# Altium integrated library TI Power Management Battery Management.IntLib: 949 symbols (part 1 of 62)
Pins are listed as number, name and electrical type; pins without a type are passive.

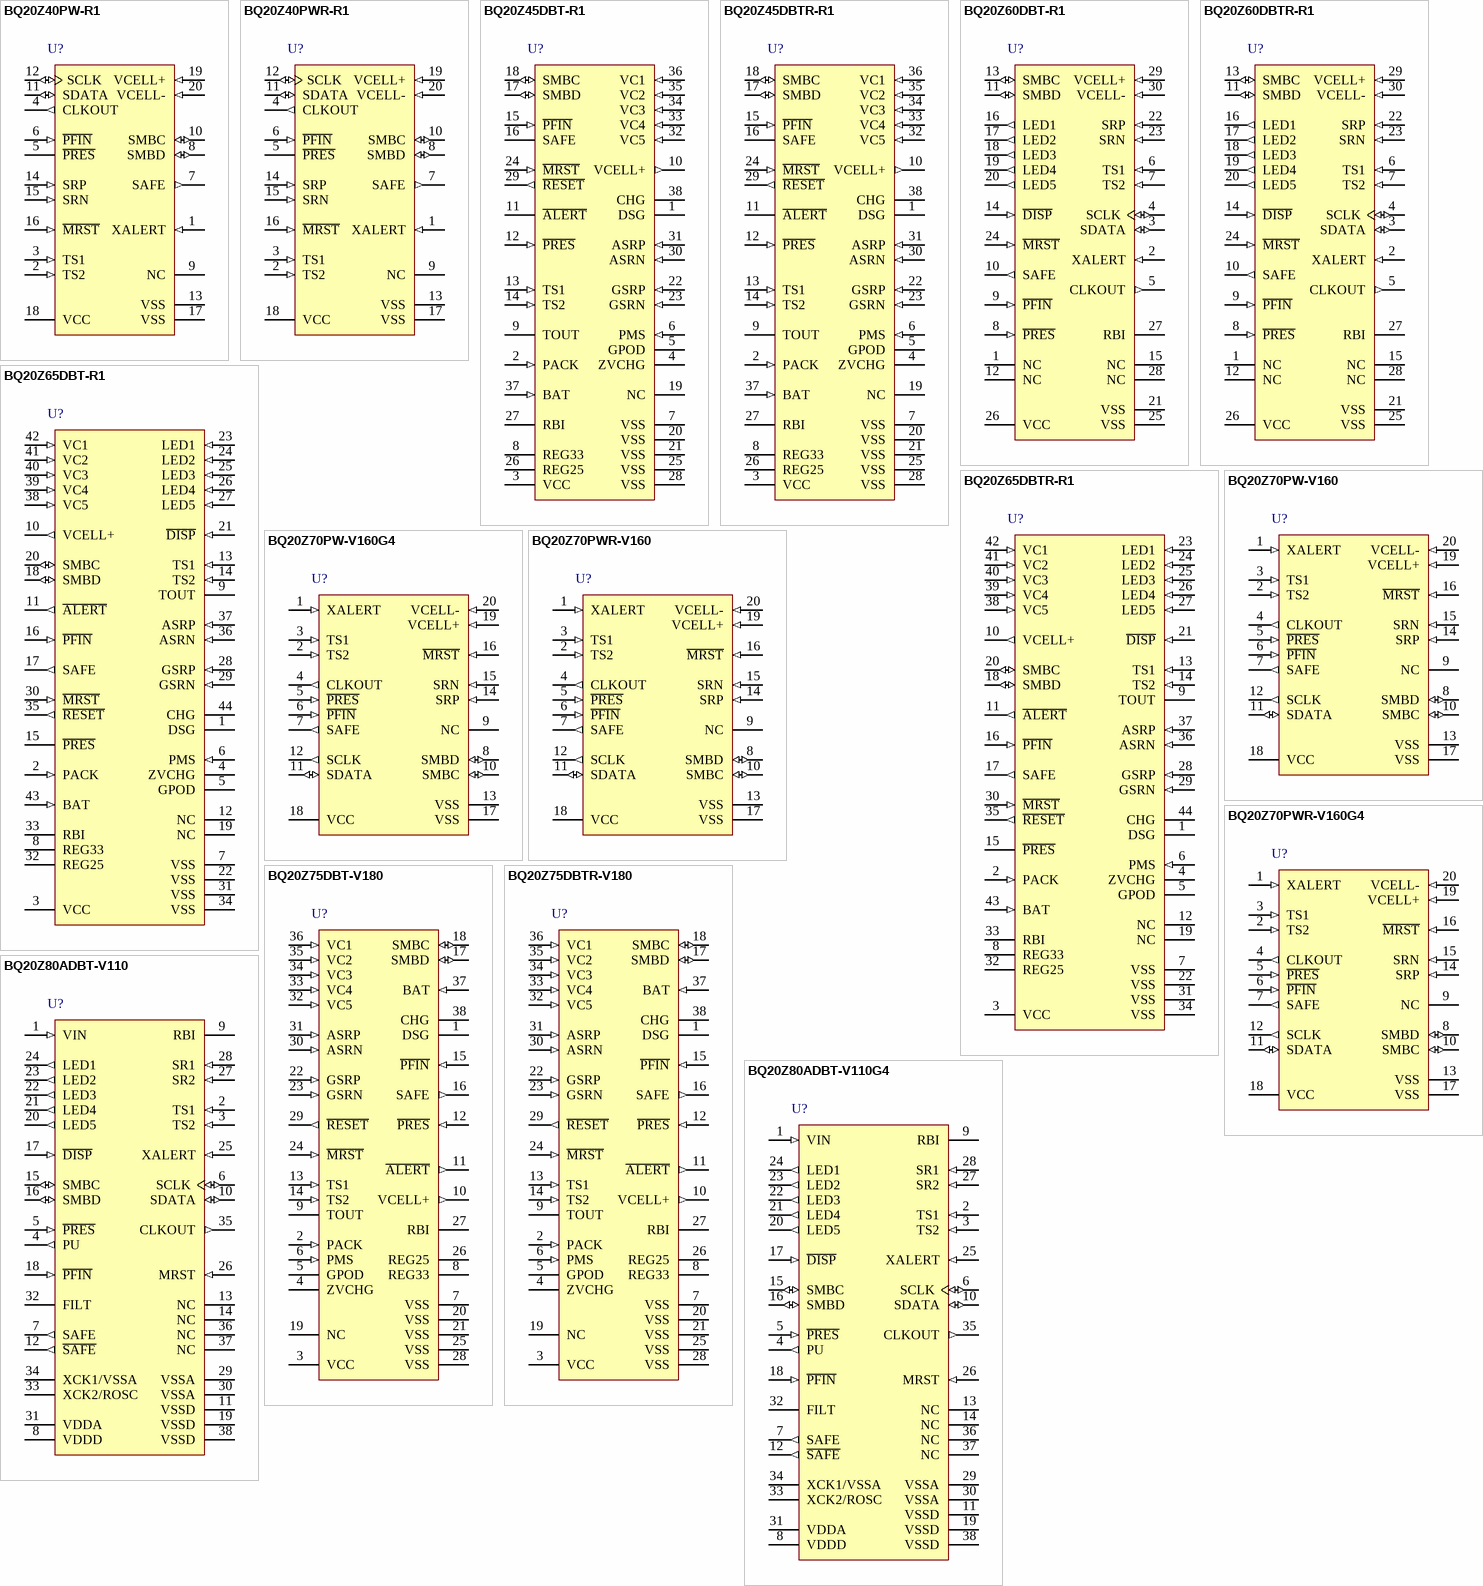
[diagram p0: symbols BQ20Z40PW-R1 to BQ20Z80ADBT-V110G4]

## BQ20Z40PW-R1
designator U?
SBS 1.1 Compliant Gas Gauge with Impedance Track Technology, -40 to 85 degC, 20-pin TSSOP (PW), Green (RoHS & no Sb/Br); PartNumber: BQ20Z40PW-R1; Manufacturer: Texas Instruments; Lead Acid: N; Li-Ion: Y; SubFamily: Battery Fuel Gauge; DatasheetVersion: SLUS993A; PackageVersion: revG, Feb-2011; PackageReference: PW20; PackageDescription: 20-Pin Plastic Thin Small Outline Package 6.5 x 4.4 mm Body ,0.65 mm Pitch; Supplier 1: Digi-Key; Supplier Part Number 1: 296-25634-5-ND; Supplier 2: Newark; Supplier Part Number 2: 64R8793; Supplier 3: Mouser; Supplier Part Number 3: 595-BQ20Z40PW-R1; Eco-Plan: Green (RoHS & no Sb/Br); Li-Polymer: N; NiCd: N; NiMH: N; Over Voltage Protection: N; Mounting Technology: Surface Mount; Code_JEDEC: MO-153; ComponentLink1Description: Datasheet; ComponentLink1URL: http://www.ti.com/general/docs/lit/getliterature.tsp?genericPartNumber=BQ20Z40-R1&fileType=pdf
footprint PW20_N (TSOP, 20-Leads, Body 6.5x4.4mm, Pitch 0.65mm, IPC Medium Density)
footprint PW20_L (TSOP, 20-Leads, Body 6.5x4.4mm, Pitch 0.65mm, IPC High Density)
footprint PW20_M (TSOP, 20-Leads, Body 6.5x4.4mm, Pitch 0.65mm, IPC Low Density)
pins: 1 XALERT (in) "Input from bq29330 XALERT output", 2 TS2 (in) "2nd Thermistor voltage input connection to monitor temperature", 3 TS1 (in) "1st Thermistor voltage input connection to monitor temperature", 4 CLKOUT (out) "32.768-kHz output for the bq29330. This pin should be directly connected to the AFE.", 5 ~{PRES} "Active low input to sense system insertion. Typically requires additional ESD protection.", 6 ~{PFIN} (in) "Active low input to detect secondary protector output status, and to allow the bq20z40-R1 to report the status of the 2nd level protection output", 7 SAFE (out) "Active high output to enforce additional level of safety protection; e.g., fuse blow", 8 SMBD (io) "SMBus data open-drain bidirectional pin used to transfer address and data to and from the bq20z40-R1", 9 NC "Not used--leave floating", 10 SMBC (io) "SMBus clock open-drain bidirectional pin used to clock the data transfer to and from the bq20z40-R1", 11 SDATA (io) "Data transfer to and from bq29330", 12 SCLK (io) "Communication clock to the bq29330", 13 VSS (power) "Connected I/O pin to VSS", 14 SRP (in) "Connections for a small-value sense resistor to monitor the battery charge- and discharge-current flow", 15 SRN (in) "Connections for a small-value sense resistor to monitor the battery charge- and discharge-current flow", 16 ~{MRST} (in) "Master reset input that forces the device into reset when held low. Must be held high for normal operation", 17 VSS (power) "Negative Supply Voltage", 18 VCC (power) "Positive Supply Voltage", 19 VCELL+ (in) "Input from bq29330 used to read a scaled value of individual cell voltages", 20 VCELL- (in) "Input from bq29330 used to read a scaled value of individual cell voltages"

## BQ20Z40PWR-R1
designator U?
SBS 1.1 Compliant Gas Gauge with Impedance Track Technology, -40 to 85 degC, 20-pin TSSOP (PW), Green (RoHS & no Sb/Br); PartNumber: BQ20Z40PWR-R1; Manufacturer: Texas Instruments; Lead Acid: N; Li-Ion: Y; SubFamily: Battery Fuel Gauge; DatasheetVersion: SLUS993A; PackageVersion: revG, Feb-2011; PackageReference: PW20; PackageDescription: 20-Pin Plastic Thin Small Outline Package 6.5 x 4.4 mm Body ,0.65 mm Pitch; Supplier 1: Digi-Key; Supplier Part Number 1: BQ20Z40PWR-R1-ND; Supplier 2: Newark; Supplier Part Number 2: 64R8794; Supplier 3: Mouser; Supplier Part Number 3: 595-BQ20Z40PWR-R1; Eco-Plan: Green (RoHS & no Sb/Br); Li-Polymer: N; NiCd: N; NiMH: N; Over Voltage Protection: N; Mounting Technology: Surface Mount; Code_JEDEC: MO-153; ComponentLink1Description: Datasheet; ComponentLink1URL: http://www.ti.com/general/docs/lit/getliterature.tsp?genericPartNumber=BQ20Z40-R1&fileType=pdf
footprint PW20_N (TSOP, 20-Leads, Body 6.5x4.4mm, Pitch 0.65mm, IPC Medium Density)
footprint PW20_L (TSOP, 20-Leads, Body 6.5x4.4mm, Pitch 0.65mm, IPC High Density)
footprint PW20_M (TSOP, 20-Leads, Body 6.5x4.4mm, Pitch 0.65mm, IPC Low Density)
pins: 1 XALERT (in) "Input from bq29330 XALERT output", 2 TS2 (in) "2nd Thermistor voltage input connection to monitor temperature", 3 TS1 (in) "1st Thermistor voltage input connection to monitor temperature", 4 CLKOUT (out) "32.768-kHz output for the bq29330. This pin should be directly connected to the AFE.", 5 ~{PRES} "Active low input to sense system insertion. Typically requires additional ESD protection.", 6 ~{PFIN} (in) "Active low input to detect secondary protector output status, and to allow the bq20z40-R1 to report the status of the 2nd level protection output", 7 SAFE (out) "Active high output to enforce additional level of safety protection; e.g., fuse blow", 8 SMBD (io) "SMBus data open-drain bidirectional pin used to transfer address and data to and from the bq20z40-R1", 9 NC "Not used--leave floating", 10 SMBC (io) "SMBus clock open-drain bidirectional pin used to clock the data transfer to and from the bq20z40-R1", 11 SDATA (io) "Data transfer to and from bq29330", 12 SCLK (io) "Communication clock to the bq29330", 13 VSS (power) "Connected I/O pin to VSS", 14 SRP (in) "Connections for a small-value sense resistor to monitor the battery charge- and discharge-current flow", 15 SRN (in) "Connections for a small-value sense resistor to monitor the battery charge- and discharge-current flow", 16 ~{MRST} (in) "Master reset input that forces the device into reset when held low. Must be held high for normal operation", 17 VSS (power) "Negative Supply Voltage", 18 VCC (power) "Positive Supply Voltage", 19 VCELL+ (in) "Input from bq29330 used to read a scaled value of individual cell voltages", 20 VCELL- (in) "Input from bq29330 used to read a scaled value of individual cell voltages"

## BQ20Z45DBT-R1
designator U?
SBS 1.1 Compliant Gas Gauge with Impedance Track Technology, -40 to 85 degC, 38-pin TSSOP (DBT), Green (RoHS & no Sb/Br); PartNumber: BQ20Z45DBT-R1; Manufacturer: Texas Instruments; Lead Acid: N; Li-Ion: Y; SubFamily: Battery Fuel Gauge; DatasheetVersion: SLUS992; PackageVersion: revI, Mar-2011; PackageReference: DBT38; PackageDescription: 38-Pin Plastic Small Outline 0.5 mm Pitch; Supplier 1: Digi-Key; Supplier Part Number 1: 296-25635-5-ND; Supplier 2: Farnell; Supplier Part Number 2: 2075409; Supplier 3: Newark; Supplier Part Number 3: 82T3740; Supplier 4: Newark; Supplier Part Number 4: 64R8795; Supplier 5: Mouser; Supplier Part Number 5: 595-BQ20Z45DBT-R1; Eco-Plan: Green (RoHS & no Sb/Br); Li-Polymer: N; NiCd: N; NiMH: N; Over Voltage Protection: N; Mounting Technology: Surface Mount; Code_JEDEC: MO-153; ComponentLink1Description: Datasheet; ComponentLink1URL: http://www.ti.com/general/docs/lit/getliterature.tsp?genericPartNumber=BQ20Z45-R1&fileType=pdf
footprint DBT38_N (TSSOP, 38-Leads, Body 9.7x4.4mm, Pitch 0.5mm, IPC Medium Density)
footprint DBT38_L (TSSOP, 38-Leads, Body 9.7x4.4mm, Pitch 0.5mm, IPC High Density)
footprint DBT38_M (TSSOP, 38-Leads, Body 9.7x4.4mm, Pitch 0.5mm, IPC Low Density)
pins: 1 DSG "High side N-chan discharge FET gate drive", 2 PACK (in) "Battery pack input voltage sense input. It also serves as device wake up when device is in shutdown mode", 3 VCC (power) "Positive device supply input. Connect to the center connection of the CHG FET and DSG FET to ensure device supply either from battery stack or battery pack input", 4 ZVCHG "P-chan pre-charge FET gate drive", 5 GPOD (oc) "High voltage general purpose open drain output. Can be configured to be used in pre-charge condition", 6 PMS (in) "Pre-charge mode setting input. Connect to PACK to enable 0v pre-charge using charge FET connected at CHG pin. Connect to VSS to disable 0V pre-charge using charge FET connected at CHG pin", 7 VSS (power) "Negative device power supply input. Connect all VSS pins together for operation of device", 8 REG33 (power) "3.3V regulator output. Connect at least a 2.2uF capacitor to REG33 and VSS", 9 TOUT "Thermistor bias supply output", 10 VCELL+ (out) "Internal cell voltage multiplexer and amplifier output. Connect a 0.1uF capacitor to VCELL+ and VSS", 11 ~{ALERT} (oc) "Alert output. In case of short circuit condition, overload condition and watchdog time out this pin will be triggered.", 12 ~{PRES} (in) "System / Host present input.", 13 TS1 (in) "Temperature sensor 1 input", 14 TS2 (in) "Temperature sensor 2 input", 15 ~{PFIN} (in) "Fuse blow detection input", 16 SAFE (oc) "Blow fuse signal output", 17 SMBD (io) "SMBus data line", 18 SMBC (io) "SMBus clock line", 19 NC "Not connected", 20 VSS (power) "Negative device power supply input. Connect all VSS pins together for operation of device", 21 VSS (power) "Negative device power supply input. Connect all VSS pins together for operation of device", 22 GSRP (in) "Coulomb counter differential input. Connect to one side of the sense resistor", 23 GSRN (in) "Coulomb counter differential input. Connect to one side of the sense resistor", 24 ~{MRST} (in) "Reset input for internal CPU core. connect to R\E\S\E\T\ for correct operation of device", 25 VSS (power) "Negative device power supply input. Connect all VSS pins together for operation of device", 26 REG25 (power) "2.5V regulator output. Connect at least a 1µF capacitor to REG25 and VSS", 27 RBI (power) "RAM backup input. Connect a capacitor to this pin and VSS to protect loss of RAM data in case of short circuit condition", 28 VSS (power) "Negative device power supply input. Connect all VSS pins together for operation of device", 29 ~{RESET} (out) "Reset output. Connect to M\S\R\T\.", 30 ASRN (in) "Short circuit and overload detection differential input. Connect to sense resistor", 31 ASRP (in) "Short circuit and overload detection differential input. Connect to sense resistor", 32 VC5 (in) "Cell voltage sense input and cell balancing input for the negative voltage of the bottom cell in cell stack", 33 VC4 (in) "Cell voltage sense input and cell balancing input for the positive voltage of the bottom cell and the negative voltage of the second lowest cell in cell stack", 34 VC3 (in) "Cell voltage sense input and cell balancing input for the positive voltage of the second lowest cell in cell stack and the negative voltage of the second highest cell in 4 cell applications.", 35 VC2 (in) "Cell voltage sense input and cell balancing input for the positive voltage of the second highest cell and the negative voltage of the highest cell in 4 cell applications. Connect to VC3 in 2 cell stack applications", 36 VC1 (in) "Cell voltage sense input and cell balancing input for the positive voltage of the highest cell in cell stack in 4 cell applications. Connect to VC2 in 3 or 2 cell stack applications", 37 BAT (in) "Battery stack voltage sense input", 38 CHG "High side N-chan charge FET gate drive"

## BQ20Z45DBTR-R1
designator U?
SBS 1.1 Compliant Gas Gauge with Impedance Track Technology, -40 to 85 degC, 38-pin TSSOP (DBT), Green (RoHS & no Sb/Br); PartNumber: BQ20Z45DBTR-R1; Manufacturer: Texas Instruments; Lead Acid: N; Li-Ion: Y; SubFamily: Battery Fuel Gauge; DatasheetVersion: SLUS992; PackageVersion: revI, Mar-2011; PackageReference: DBT38; PackageDescription: 38-Pin Plastic Small Outline 0.5 mm Pitch; Supplier 1: Digi-Key; Supplier Part Number 1: BQ20Z45DBTR-R1-ND; Supplier 2: Newark; Supplier Part Number 2: 64R8796; Supplier 3: Mouser; Supplier Part Number 3: 595-BQ20Z45DBTR-R1; Eco-Plan: Green (RoHS & no Sb/Br); Li-Polymer: N; NiCd: N; NiMH: N; Over Voltage Protection: N; Mounting Technology: Surface Mount; Code_JEDEC: MO-153; ComponentLink1Description: Datasheet; ComponentLink1URL: http://www.ti.com/general/docs/lit/getliterature.tsp?genericPartNumber=BQ20Z45-R1&fileType=pdf
footprint DBT38_N (TSSOP, 38-Leads, Body 9.7x4.4mm, Pitch 0.5mm, IPC Medium Density)
footprint DBT38_L (TSSOP, 38-Leads, Body 9.7x4.4mm, Pitch 0.5mm, IPC High Density)
footprint DBT38_M (TSSOP, 38-Leads, Body 9.7x4.4mm, Pitch 0.5mm, IPC Low Density)
pins: 1 DSG "High side N-chan discharge FET gate drive", 2 PACK (in) "Battery pack input voltage sense input. It also serves as device wake up when device is in shutdown mode", 3 VCC (power) "Positive device supply input. Connect to the center connection of the CHG FET and DSG FET to ensure device supply either from battery stack or battery pack input", 4 ZVCHG "P-chan pre-charge FET gate drive", 5 GPOD (oc) "High voltage general purpose open drain output. Can be configured to be used in pre-charge condition", 6 PMS (in) "Pre-charge mode setting input. Connect to PACK to enable 0v pre-charge using charge FET connected at CHG pin. Connect to VSS to disable 0V pre-charge using charge FET connected at CHG pin", 7 VSS (power) "Negative device power supply input. Connect all VSS pins together for operation of device", 8 REG33 (power) "3.3V regulator output. Connect at least a 2.2uF capacitor to REG33 and VSS", 9 TOUT "Thermistor bias supply output", 10 VCELL+ (out) "Internal cell voltage multiplexer and amplifier output. Connect a 0.1uF capacitor to VCELL+ and VSS", 11 ~{ALERT} (oc) "Alert output. In case of short circuit condition, overload condition and watchdog time out this pin will be triggered.", 12 ~{PRES} (in) "System / Host present input.", 13 TS1 (in) "Temperature sensor 1 input", 14 TS2 (in) "Temperature sensor 2 input", 15 ~{PFIN} (in) "Fuse blow detection input", 16 SAFE (oc) "Blow fuse signal output", 17 SMBD (io) "SMBus data line", 18 SMBC (io) "SMBus clock line", 19 NC "Not connected", 20 VSS (power) "Negative device power supply input. Connect all VSS pins together for operation of device", 21 VSS (power) "Negative device power supply input. Connect all VSS pins together for operation of device", 22 GSRP (in) "Coulomb counter differential input. Connect to one side of the sense resistor", 23 GSRN (in) "Coulomb counter differential input. Connect to one side of the sense resistor", 24 ~{MRST} (in) "Reset input for internal CPU core. connect to R\E\S\E\T\ for correct operation of device", 25 VSS (power) "Negative device power supply input. Connect all VSS pins together for operation of device", 26 REG25 (power) "2.5V regulator output. Connect at least a 1µF capacitor to REG25 and VSS", 27 RBI (power) "RAM backup input. Connect a capacitor to this pin and VSS to protect loss of RAM data in case of short circuit condition", 28 VSS (power) "Negative device power supply input. Connect all VSS pins together for operation of device", 29 ~{RESET} (out) "Reset output. Connect to M\S\R\T\.", 30 ASRN (in) "Short circuit and overload detection differential input. Connect to sense resistor", 31 ASRP (in) "Short circuit and overload detection differential input. Connect to sense resistor", 32 VC5 (in) "Cell voltage sense input and cell balancing input for the negative voltage of the bottom cell in cell stack", 33 VC4 (in) "Cell voltage sense input and cell balancing input for the positive voltage of the bottom cell and the negative voltage of the second lowest cell in cell stack", 34 VC3 (in) "Cell voltage sense input and cell balancing input for the positive voltage of the second lowest cell in cell stack and the negative voltage of the second highest cell in 4 cell applications.", 35 VC2 (in) "Cell voltage sense input and cell balancing input for the positive voltage of the second highest cell and the negative voltage of the highest cell in 4 cell applications. Connect to VC3 in 2 cell stack applications", 36 VC1 (in) "Cell voltage sense input and cell balancing input for the positive voltage of the highest cell in cell stack in 4 cell applications. Connect to VC2 in 3 or 2 cell stack applications", 37 BAT (in) "Battery stack voltage sense input", 38 CHG "High side N-chan charge FET gate drive"

## BQ20Z60DBT-R1
designator U?
SBS 1.1 Compliant Gas Gauge with Impedance Track Technology, -40 to 85 degC, 30-pin TSSOP (DBT), Green (RoHS & no Sb/Br); PartNumber: BQ20Z60DBT-R1; Manufacturer: Texas Instruments; Lead Acid: N; Li-Ion: Y; SubFamily: Battery Fuel Gauge; DatasheetVersion: SLUS991A; PackageVersion: 38596; PackageReference: DBT30; PackageDescription: 30-Pin Thin Shrink Small Outline Package 0.5 mm Pitch; Supplier 1: Digi-Key; Supplier Part Number 1: 296-25604-5-ND; Supplier 2: Farnell; Supplier Part Number 2: 1815713; Supplier 3: Newark; Supplier Part Number 3: 78T1615; Supplier 4: Newark; Supplier Part Number 4: 60R2407; Supplier 5: Mouser; Supplier Part Number 5: 595-BQ20Z60DBT-R1; Eco-Plan: Green (RoHS & no Sb/Br); Li-Polymer: N; NiCd: N; NiMH: N; Over Voltage Protection: N; Mounting Technology: Surface Mount; Code_JEDEC: MO-153; ComponentLink1Description: Datasheet; ComponentLink1URL: http://www.ti.com/general/docs/lit/getliterature.tsp?genericPartNumber=BQ20Z60-R1&fileType=pdf
footprint DBT30_N (TSSOP, 30-Leads, Body 7.8x4.4mm, Pitch 0.5mm, IPC Medium Density)
footprint DBT30_L (TSSOP, 30-Leads, Body 7.8x4.4mm, Pitch 0.5mm, IPC High Density)
footprint DBT30_M (TSSOP, 30-Leads, Body 7.8x4.4mm, Pitch 0.5mm, IPC Low Density)
pins: 1 NC "Not used--leave floating", 2 XALERT (in) "Input from bq29330 XALERT output", 3 SDATA (io) "Data transfer to and from bq29330", 4 SCLK (io) "Communication clock to the bq29330", 5 CLKOUT (out) "32.768-kHz output for the bq29330. This pin should be directly connected to the AFE.", 6 TS1 (in) "1st Thermistor voltage input connection to monitor temperature", 7 TS2 (in) "2nd Thermistor voltage input connection to monitor temperature", 8 ~{PRES} (in) "Active low input to sense system insertion. This typically requires additional ESD protection.", 9 ~{PFIN} (in) "Active low input to detect secondary protector output status, and to allow the bq20z60-R1 to report the status of the 2nd level protection output", 10 SAFE (out) "Active high output to enforce additional level of safety protection; for example, fuse blow", 11 SMBD (io) "SMBus data open-drain bidirectional pin used to transfer address and data to and from the bq20z60-R1", 12 NC "Not used--leave floating", 13 SMBC (io) "SMBus clock open-drain bidirectional pin used to clock the data transfer to and from the bq20z60-R1", 14 ~{DISP} (in) "Display control for the LEDs. This pin is typically connected to bq29330 REG via a 100-k ohm resistor", 15 NC "Not used--leave floating", 16 LED1 (out) "LED1 display segment that drives an external LED depending on the firmware configuration", 17 LED2 (out) "LED2 display segment that drives an external LED depending on the firmware configuration", 18 LED3 (out) "LED3 display segment that drives an external LED depending on the firmware configuration", 19 LED4 (out) "LED4 display segment that drives an external LED depending on the firmware configuration", 20 LED5 (out) "LED5 display segment that drives an external LED depending on the firmware configuration", 21 VSS (power) "Negative supply voltage", 22 SRP (in) "Connections for a small-value sense resistor to monitor the battery charge- and discharge-current flow", 23 SRN (in) "Connections for a small-value sense resistor to monitor the battery charge- and discharge-current flow", 24 ~{MRST} (in) "Master reset input that forces the device into reset when held low. This pin must be held high for normal operation.", 25 VSS (power) "Negative supply voltage", 26 VCC (power) "Positive supply voltage", 27 RBI (power) "RAM backup input. Connect a capacitor to this pin and VSS to protect loss of RAM data in case of short circuit condition.", 28 NC "Not used--leave floating", 29 VCELL+ (in) "Input from bq29330 used to read a scaled value of individual cell voltages", 30 VCELL- (in) "Input from bq29330 used to read a scaled value of individual cell voltages"

## BQ20Z60DBTR-R1
designator U?
SBS 1.1 Compliant Gas Gauge with Impedance Track Technology, -40 to 85 degC, 30-pin TSSOP (DBT), Green (RoHS & no Sb/Br); PartNumber: BQ20Z60DBTR-R1; Manufacturer: Texas Instruments; Lead Acid: N; Li-Ion: Y; SubFamily: Battery Fuel Gauge; DatasheetVersion: SLUS991A; PackageVersion: 38596; PackageReference: DBT30; PackageDescription: 30-Pin Thin Shrink Small Outline Package 0.5 mm Pitch; Supplier 1: Digi-Key; Supplier Part Number 1: BQ20Z60DBTR-R1-ND; Supplier 2: Newark; Supplier Part Number 2: 64R8797; Supplier 3: Mouser; Supplier Part Number 3: 595-BQ20Z60DBTR-R1; Eco-Plan: Green (RoHS & no Sb/Br); Li-Polymer: N; NiCd: N; NiMH: N; Over Voltage Protection: N; Mounting Technology: Surface Mount; Code_JEDEC: MO-153; ComponentLink1Description: Datasheet; ComponentLink1URL: http://www.ti.com/general/docs/lit/getliterature.tsp?genericPartNumber=BQ20Z60-R1&fileType=pdf
footprint DBT30_N (TSSOP, 30-Leads, Body 7.8x4.4mm, Pitch 0.5mm, IPC Medium Density)
footprint DBT30_L (TSSOP, 30-Leads, Body 7.8x4.4mm, Pitch 0.5mm, IPC High Density)
footprint DBT30_M (TSSOP, 30-Leads, Body 7.8x4.4mm, Pitch 0.5mm, IPC Low Density)
pins: 1 NC "Not used--leave floating", 2 XALERT (in) "Input from bq29330 XALERT output", 3 SDATA (io) "Data transfer to and from bq29330", 4 SCLK (io) "Communication clock to the bq29330", 5 CLKOUT (out) "32.768-kHz output for the bq29330. This pin should be directly connected to the AFE.", 6 TS1 (in) "1st Thermistor voltage input connection to monitor temperature", 7 TS2 (in) "2nd Thermistor voltage input connection to monitor temperature", 8 ~{PRES} (in) "Active low input to sense system insertion. This typically requires additional ESD protection.", 9 ~{PFIN} (in) "Active low input to detect secondary protector output status, and to allow the bq20z60-R1 to report the status of the 2nd level protection output", 10 SAFE (out) "Active high output to enforce additional level of safety protection; for example, fuse blow", 11 SMBD (io) "SMBus data open-drain bidirectional pin used to transfer address and data to and from the bq20z60-R1", 12 NC "Not used--leave floating", 13 SMBC (io) "SMBus clock open-drain bidirectional pin used to clock the data transfer to and from the bq20z60-R1", 14 ~{DISP} (in) "Display control for the LEDs. This pin is typically connected to bq29330 REG via a 100-k ohm resistor", 15 NC "Not used--leave floating", 16 LED1 (out) "LED1 display segment that drives an external LED depending on the firmware configuration", 17 LED2 (out) "LED2 display segment that drives an external LED depending on the firmware configuration", 18 LED3 (out) "LED3 display segment that drives an external LED depending on the firmware configuration", 19 LED4 (out) "LED4 display segment that drives an external LED depending on the firmware configuration", 20 LED5 (out) "LED5 display segment that drives an external LED depending on the firmware configuration", 21 VSS (power) "Negative supply voltage", 22 SRP (in) "Connections for a small-value sense resistor to monitor the battery charge- and discharge-current flow", 23 SRN (in) "Connections for a small-value sense resistor to monitor the battery charge- and discharge-current flow", 24 ~{MRST} (in) "Master reset input that forces the device into reset when held low. This pin must be held high for normal operation.", 25 VSS (power) "Negative supply voltage", 26 VCC (power) "Positive supply voltage", 27 RBI (power) "RAM backup input. Connect a capacitor to this pin and VSS to protect loss of RAM data in case of short circuit condition.", 28 NC "Not used--leave floating", 29 VCELL+ (in) "Input from bq29330 used to read a scaled value of individual cell voltages", 30 VCELL- (in) "Input from bq29330 used to read a scaled value of individual cell voltages"

## BQ20Z65DBT-R1
designator U?
SBS 1.1 Compliant Gas Gauge with Impedance Track Technology, -40 to 85 degC, 44-pin TSSOP (DBT), Green (RoHS & no Sb/Br); PartNumber: BQ20Z65DBT-R1; Manufacturer: Texas Instruments; Lead Acid: N; Li-Ion: Y; SubFamily: Battery Fuel Gauge; DatasheetVersion: SLUS990; PackageVersion: 38596; PackageReference: DBT44; PackageDescription: 44-Pin Thin Shrink Small Outline Package 0.5 mm Pitch; Supplier 1: Digi-Key; Supplier Part Number 1: 296-25636-5-ND; Supplier 2: Newark; Supplier Part Number 2: 64R8798; Supplier 3: Mouser; Supplier Part Number 3: 595-BQ20Z65DBT-R1; Eco-Plan: Green (RoHS & no Sb/Br); Li-Polymer: N; NiCd: N; NiMH: N; Over Voltage Protection: N; Mounting Technology: Surface Mount; ComponentLink1Description: Datasheet; ComponentLink1URL: http://www.ti.com/general/docs/lit/getliterature.tsp?genericPartNumber=BQ20Z65-R1&fileType=pdf
footprint DBT44_N (TSSOP, 44-Leads, Body 11.3x4.4mm, Pitch 0.5mm, IPC Medium Density)
footprint DBT44_L (TSSOP, 44-Leads, Body 11.3x4.4mm, Pitch 0.5mm, IPC High Density)
footprint DBT44_M (TSSOP, 44-Leads, Body 11.3x4.4mm, Pitch 0.5mm, IPC Low Density)
pins: 1 DSG "High side N-chan discharge FET gate drive", 2 PACK (in) "Battery pack input voltage sense input. It also serves as device wake up when device is in shutdown mode.", 3 VCC (power) "Positive device supply input. Connect to the center connection of the CHG FET and DSG FET to ensure device supply either from battery stack or battery pack input", 4 ZVCHG "P-chan pre-charge FET gate drive", 5 GPOD (oc) "High voltage general purpose open drain output. Can be configured to be used in pre-charge condition", 6 PMS (in) "Pre-charge mode setting input. Connect to PACK to enable 0v pre-charge using charge FET connected at CHG pin. Connect to VSS to disable 0V pre-charge using charge FET connected at CHG pin.", 7 VSS (power) "Negative supply voltage input. Connect all VSS pins together for operation of device", 8 REG33 (power) "3.3V regulator output. Connect at least a 2.2uF capacitor to REG33 and VSS", 9 TOUT (power) "Thermistor bias supply output", 10 VCELL+ (out) "Internal cell voltage multiplexer and amplifier output. Connect a 0.1uF capacitor to VCELL+ and VSS", 11 ~{ALERT} (out) "Alert output. In case of short circuit condition, overload condition and watchdog time out this pin will be triggered.", 12 NC "Not used - leave floating", 13 TS1 (in) "1st Thermistor voltage input connection to monitor temperature", 14 TS2 (in) "2nd Thermistor voltage input connection to monitor temperature", 15 ~{PRES} "Active low input to sense system insertion. Typically requires additional ESD protection.", 16 ~{PFIN} (in) "Active low input to detect secondary protector status, and to allow the bq20z65-R1 to report the status of the 2nd level protection input.", 17 SAFE (out) "Active high output to enforce additional level of safety protection; e.g., fuse blow.", 18 SMBD (io) "SMBus data open-drain bidirectional pin used to transfer address and data to and from the bq20z65-R1", 19 NC "Not used - leave floating", 20 SMBC (io) "SMBus clock open-drain bidirectional pin used to clock the data transfer to and from the bq20z65-R1", 21 ~{DISP} (in) "Display control for the LEDs. This pin is typically connected to VCC via a 100k ohm resistor and a push button switch connected to VSS.", 22 VSS (power) "Negative supply voltage input. Connect all VSS pins together for operation of device", 23 LED1 (in) "LED1 display segment that drives an external LED depending on the firmware configuration", 24 LED2 (in) "LED2 display segment that drives an external LED depending on the firmware configuration", 25 LED3 (in) "LED3 display segment that drives an external LED depending on the firmware configuration", 26 LED4 (in) "LED4 display segment that drives an external LED depending on the firmware configuration", 27 LED5 (in) "LED5 display segment that drives an external LED depending on the firmware configuration", 28 GSRP (in) "Coulomb counter differential input. Connect to one side of the sense resistor", 29 GSRN (in) "Coulomb counter differential input. Connect to one side of the sense resistor", 30 ~{MRST} (in) "Master reset input that forces the device into reset when held low. Must be held high for normal operation. Connect to R\E\S\E\T\ for correct operation of device", 31 VSS (power) "Negative supply voltage input. Connect all VSS pins together for operation of device", 32 REG25 (power) "2.5V regulator output. Connect at least a 1mF capacitor to REG25 and VSS", 33 RBI (power) "RAM / Register backup input. Connect a capacitor to this pin and VSS to protect loss of RAM /Register data in case of short circuit condition.", 34 VSS (power) "Negative supply voltage input. Connect all VSS pins together for operation of device", 35 ~{RESET} (out) "Reset output. Connect to M\S\R\T\.", 36 ASRN (in) "Short circuit and overload detection differential input. Connect to sense resistor", 37 ASRP (in) "Short circuit and overload detection differential input. Connect to sense resistor", 38 VC5 (in) "Cell votage sense input and cell balancing input for the negative voltage of the bottom cell in cell stack.", 39 VC4 (in) "Cell votage sense input and cell balancing input for the positive voltage of the bottom cell and the negative voltage of the second lowest cell in cell stack.", 40 VC3 (in) "Cell voltage sense input and cell balancing input for the positive voltage of the second lowest cell in cell stack and the negative voltage of the second highest cell in 4 cell applications.", 41 VC2 (in) "Cell voltage sense input and cell balancing input for the positive voltage of the second highest cell and the negative voltage of the highest cell in 4 cell applications. Connect to VC3 in 2 cell stack applications.", 42 VC1 (in) "Cell voltage sense input and cell balancing input for the positive voltage of the highest cell in cell stack in 4 cell applications. Connect to VC2 in 3 or 2 cell stack applications.", 43 BAT (in) "Battery stack voltage sense input.", 44 CHG "High side N-channel charge FET gate drive"

## BQ20Z65DBTR-R1
designator U?
SBS 1.1 Compliant Gas Gauge with Impedance Track Technology, -40 to 85 degC, 44-pin TSSOP (DBT), Green (RoHS & no Sb/Br); PartNumber: BQ20Z65DBTR-R1; Manufacturer: Texas Instruments; Lead Acid: N; Li-Ion: Y; SubFamily: Battery Fuel Gauge; DatasheetVersion: SLUS990; PackageVersion: 38596; PackageReference: DBT44; PackageDescription: 44-Pin Thin Shrink Small Outline Package 0.5 mm Pitch; Supplier 1: Digi-Key; Supplier Part Number 1: BQ20Z65DBTR-R1-ND; Supplier 2: Newark; Supplier Part Number 2: 64R8799; Supplier 3: Mouser; Supplier Part Number 3: 595-BQ20Z65DBTR-R1; Eco-Plan: Green (RoHS & no Sb/Br); Li-Polymer: N; NiCd: N; NiMH: N; Over Voltage Protection: N; Mounting Technology: Surface Mount; ComponentLink1Description: Datasheet; ComponentLink1URL: http://www.ti.com/general/docs/lit/getliterature.tsp?genericPartNumber=BQ20Z65-R1&fileType=pdf
footprint DBT44_N (TSSOP, 44-Leads, Body 11.3x4.4mm, Pitch 0.5mm, IPC Medium Density)
footprint DBT44_L (TSSOP, 44-Leads, Body 11.3x4.4mm, Pitch 0.5mm, IPC High Density)
footprint DBT44_M (TSSOP, 44-Leads, Body 11.3x4.4mm, Pitch 0.5mm, IPC Low Density)
pins: 1 DSG "High side N-chan discharge FET gate drive", 2 PACK (in) "Battery pack input voltage sense input. It also serves as device wake up when device is in shutdown mode.", 3 VCC (power) "Positive device supply input. Connect to the center connection of the CHG FET and DSG FET to ensure device supply either from battery stack or battery pack input", 4 ZVCHG "P-chan pre-charge FET gate drive", 5 GPOD (oc) "High voltage general purpose open drain output. Can be configured to be used in pre-charge condition", 6 PMS (in) "Pre-charge mode setting input. Connect to PACK to enable 0v pre-charge using charge FET connected at CHG pin. Connect to VSS to disable 0V pre-charge using charge FET connected at CHG pin.", 7 VSS (power) "Negative supply voltage input. Connect all VSS pins together for operation of device", 8 REG33 (power) "3.3V regulator output. Connect at least a 2.2uF capacitor to REG33 and VSS", 9 TOUT (power) "Thermistor bias supply output", 10 VCELL+ (out) "Internal cell voltage multiplexer and amplifier output. Connect a 0.1uF capacitor to VCELL+ and VSS", 11 ~{ALERT} (out) "Alert output. In case of short circuit condition, overload condition and watchdog time out this pin will be triggered.", 12 NC "Not used - leave floating", 13 TS1 (in) "1st Thermistor voltage input connection to monitor temperature", 14 TS2 (in) "2nd Thermistor voltage input connection to monitor temperature", 15 ~{PRES} "Active low input to sense system insertion. Typically requires additional ESD protection.", 16 ~{PFIN} (in) "Active low input to detect secondary protector status, and to allow the bq20z65-R1 to report the status of the 2nd level protection input.", 17 SAFE (out) "Active high output to enforce additional level of safety protection; e.g., fuse blow.", 18 SMBD (io) "SMBus data open-drain bidirectional pin used to transfer address and data to and from the bq20z65-R1", 19 NC "Not used - leave floating", 20 SMBC (io) "SMBus clock open-drain bidirectional pin used to clock the data transfer to and from the bq20z65-R1", 21 ~{DISP} (in) "Display control for the LEDs. This pin is typically connected to VCC via a 100k ohm resistor and a push button switch connected to VSS.", 22 VSS (power) "Negative supply voltage input. Connect all VSS pins together for operation of device", 23 LED1 (in) "LED1 display segment that drives an external LED depending on the firmware configuration", 24 LED2 (in) "LED2 display segment that drives an external LED depending on the firmware configuration", 25 LED3 (in) "LED3 display segment that drives an external LED depending on the firmware configuration", 26 LED4 (in) "LED4 display segment that drives an external LED depending on the firmware configuration", 27 LED5 (in) "LED5 display segment that drives an external LED depending on the firmware configuration", 28 GSRP (in) "Coulomb counter differential input. Connect to one side of the sense resistor", 29 GSRN (in) "Coulomb counter differential input. Connect to one side of the sense resistor", 30 ~{MRST} (in) "Master reset input that forces the device into reset when held low. Must be held high for normal operation. Connect to R\E\S\E\T\ for correct operation of device", 31 VSS (power) "Negative supply voltage input. Connect all VSS pins together for operation of device", 32 REG25 (power) "2.5V regulator output. Connect at least a 1mF capacitor to REG25 and VSS", 33 RBI (power) "RAM / Register backup input. Connect a capacitor to this pin and VSS to protect loss of RAM /Register data in case of short circuit condition.", 34 VSS (power) "Negative supply voltage input. Connect all VSS pins together for operation of device", 35 ~{RESET} (out) "Reset output. Connect to M\S\R\T\.", 36 ASRN (in) "Short circuit and overload detection differential input. Connect to sense resistor", 37 ASRP (in) "Short circuit and overload detection differential input. Connect to sense resistor", 38 VC5 (in) "Cell votage sense input and cell balancing input for the negative voltage of the bottom cell in cell stack.", 39 VC4 (in) "Cell votage sense input and cell balancing input for the positive voltage of the bottom cell and the negative voltage of the second lowest cell in cell stack.", 40 VC3 (in) "Cell voltage sense input and cell balancing input for the positive voltage of the second lowest cell in cell stack and the negative voltage of the second highest cell in 4 cell applications.", 41 VC2 (in) "Cell voltage sense input and cell balancing input for the positive voltage of the second highest cell and the negative voltage of the highest cell in 4 cell applications. Connect to VC3 in 2 cell stack applications.", 42 VC1 (in) "Cell voltage sense input and cell balancing input for the positive voltage of the highest cell in cell stack in 4 cell applications. Connect to VC2 in 3 or 2 cell stack applications.", 43 BAT (in) "Battery stack voltage sense input.", 44 CHG "High side N-channel charge FET gate drive"

## BQ20Z70PW-V160
designator U?
SBS 1.1 Compliant Gas Gauge Enabled with Impedance Track Technology for use with the bq29330, -40 to 85 degC, 20-pin TSSOP (PW), Green (RoHS & no Sb/Br); PartNumber: BQ20Z70PW-V160; Manufacturer: Texas Instruments; Lead Acid: N; Li-Ion: Y; SubFamily: Battery Fuel Gauge; DatasheetVersion: SLUS686B; PackageVersion: revG, Feb-2011; PackageReference: PW20; PackageDescription: 20-Pin Plastic Thin Small Outline Package 6.5 x 4.4 mm Body ,0.65 mm Pitch; Supplier 1: Digi-Key; Supplier Part Number 1: 296-23706-5-ND; Supplier 2: Mouser; Supplier Part Number 2: 595-BQ20Z70PW-V160; Eco-Plan: Green (RoHS & no Sb/Br); Li-Polymer: Y; NiCd: N; NiMH: N; Over Voltage Protection: N; Mounting Technology: Surface Mount; Code_JEDEC: MO-153; ComponentLink1Description: Datasheet; ComponentLink1URL: http://www.ti.com/general/docs/lit/getliterature.tsp?genericPartNumber=BQ20Z70-V160&fileType=pdf
footprint PW20_N (TSOP, 20-Leads, Body 6.5x4.4mm, Pitch 0.65mm, IPC Medium Density)
footprint PW20_L (TSOP, 20-Leads, Body 6.5x4.4mm, Pitch 0.65mm, IPC High Density)
footprint PW20_M (TSOP, 20-Leads, Body 6.5x4.4mm, Pitch 0.65mm, IPC Low Density)
pins: 1 XALERT (in) "Alert interrupt input from bq29330. Connect directly to bq29330 XALERT pin", 2 TS2 (in) "2nd thermistor voltage input connection to monitor temperature", 3 TS1 (in) "1st thermistor voltage input connection to monitor temperature", 4 CLKOUT (out) "32.768kHz output for bq29330 watchdog. Connect directly to bq29330 WDI pin", 5 ~{PRES} (in) "Active low input to sense system insertion", 6 ~{PFIN} (in) "Active low input to sense secondary protector output status", 7 SAFE (out) "Active high output to enforce additional level of safety, e.g. fuse blow", 8 SMBD (io) "SMBus data open drain bidirectional pin used for communication with bq20z70", 9 NC "Not used - leave floating", 10 SMBC (io) "SMBus clock open drain bidirectional pin used for communication with bq20z70", 11 SDATA (io) "Data transfer line from and to bq29330. Connect directly to SDATA pin of bq29330", 12 SCLK (out) "Data clock line to bq29330. Connect directly to SCLK pin of bq29330", 13 VSS (power), 14 SRP (in) "Connection for a small-value resistor to monitor the battery charge and discharge current flow", 15 SRN (in) "Connection for a small-value resistor to monitor the battery charge and discharge current flow", 16 ~{MRST} (in) "Master reset input that forces the device into reset when held low. Connect directly to XRST pin of bq29330", 17 VSS (power) "Negative supply. Both VSS needs to be connected together", 18 VCC (power) "Positive supply", 19 VCELL+ (in) "Positive differential cell input. Connect directly to CELL+ pin of bq29330", 20 VCELL- (in) "Negative differential cell input. Connect directly to CELL- pin of bq29330"

## BQ20Z70PW-V160G4
designator U?
SBS 1.1 Compliant Gas Gauge Enabled with Impedance Track Technology for use with the bq29330, -40 to 85 degC, 20-pin TSSOP (PW), Green (RoHS & no Sb/Br); PartNumber: BQ20Z70PW-V160G4; Manufacturer: Texas Instruments; Lead Acid: N; Li-Ion: Y; SubFamily: Battery Fuel Gauge; DatasheetVersion: SLUS686B; PackageVersion: revG, Feb-2011; PackageReference: PW20; PackageDescription: 20-Pin Plastic Thin Small Outline Package 6.5 x 4.4 mm Body ,0.65 mm Pitch; Supplier 1: Digi-Key; Supplier Part Number 1: BQ20Z70PW-V160G4-ND; Supplier 2: Mouser; Supplier Part Number 2: 595-BQ20Z70PW-V160G4; Eco-Plan: Green (RoHS & no Sb/Br); Li-Polymer: Y; NiCd: N; NiMH: N; Over Voltage Protection: N; Mounting Technology: Surface Mount; Code_JEDEC: MO-153; ComponentLink1Description: Datasheet; ComponentLink1URL: http://www.ti.com/general/docs/lit/getliterature.tsp?genericPartNumber=BQ20Z70-V160&fileType=pdf
footprint PW20_N (TSOP, 20-Leads, Body 6.5x4.4mm, Pitch 0.65mm, IPC Medium Density)
footprint PW20_L (TSOP, 20-Leads, Body 6.5x4.4mm, Pitch 0.65mm, IPC High Density)
footprint PW20_M (TSOP, 20-Leads, Body 6.5x4.4mm, Pitch 0.65mm, IPC Low Density)
pins: 1 XALERT (in) "Alert interrupt input from bq29330. Connect directly to bq29330 XALERT pin", 2 TS2 (in) "2nd thermistor voltage input connection to monitor temperature", 3 TS1 (in) "1st thermistor voltage input connection to monitor temperature", 4 CLKOUT (out) "32.768kHz output for bq29330 watchdog. Connect directly to bq29330 WDI pin", 5 ~{PRES} (in) "Active low input to sense system insertion", 6 ~{PFIN} (in) "Active low input to sense secondary protector output status", 7 SAFE (out) "Active high output to enforce additional level of safety, e.g. fuse blow", 8 SMBD (io) "SMBus data open drain bidirectional pin used for communication with bq20z70", 9 NC "Not used - leave floating", 10 SMBC (io) "SMBus clock open drain bidirectional pin used for communication with bq20z70", 11 SDATA (io) "Data transfer line from and to bq29330. Connect directly to SDATA pin of bq29330", 12 SCLK (out) "Data clock line to bq29330. Connect directly to SCLK pin of bq29330", 13 VSS (power), 14 SRP (in) "Connection for a small-value resistor to monitor the battery charge and discharge current flow", 15 SRN (in) "Connection for a small-value resistor to monitor the battery charge and discharge current flow", 16 ~{MRST} (in) "Master reset input that forces the device into reset when held low. Connect directly to XRST pin of bq29330", 17 VSS (power) "Negative supply. Both VSS needs to be connected together", 18 VCC (power) "Positive supply", 19 VCELL+ (in) "Positive differential cell input. Connect directly to CELL+ pin of bq29330", 20 VCELL- (in) "Negative differential cell input. Connect directly to CELL- pin of bq29330"

## BQ20Z70PWR-V160
designator U?
SBS 1.1 Compliant Gas Gauge Enabled with Impedance Track Technology for use with the bq29330, -40 to 85 degC, 20-pin TSSOP (PW), Green (RoHS & no Sb/Br); PartNumber: BQ20Z70PWR-V160; Manufacturer: Texas Instruments; Lead Acid: N; Li-Ion: Y; SubFamily: Battery Fuel Gauge; DatasheetVersion: SLUS686B; PackageVersion: revG, Feb-2011; PackageReference: PW20; PackageDescription: 20-Pin Plastic Thin Small Outline Package 6.5 x 4.4 mm Body ,0.65 mm Pitch; Supplier 1: Digi-Key; Supplier Part Number 1: 296-25919-2-ND; Supplier 2: Digi-Key; Supplier Part Number 2: 296-25919-1-ND; Supplier 3: Digi-Key; Supplier Part Number 3: 296-25919-6-ND; Supplier 4: Mouser; Supplier Part Number 4: 595-BQ20Z70PWR-V160; Eco-Plan: Green (RoHS & no Sb/Br); Li-Polymer: Y; NiCd: N; NiMH: N; Over Voltage Protection: N; Mounting Technology: Surface Mount; Code_JEDEC: MO-153; ComponentLink1Description: Datasheet; ComponentLink1URL: http://www.ti.com/general/docs/lit/getliterature.tsp?genericPartNumber=BQ20Z70-V160&fileType=pdf
footprint PW20_N (TSOP, 20-Leads, Body 6.5x4.4mm, Pitch 0.65mm, IPC Medium Density)
footprint PW20_L (TSOP, 20-Leads, Body 6.5x4.4mm, Pitch 0.65mm, IPC High Density)
footprint PW20_M (TSOP, 20-Leads, Body 6.5x4.4mm, Pitch 0.65mm, IPC Low Density)
pins: 1 XALERT (in) "Alert interrupt input from bq29330. Connect directly to bq29330 XALERT pin", 2 TS2 (in) "2nd thermistor voltage input connection to monitor temperature", 3 TS1 (in) "1st thermistor voltage input connection to monitor temperature", 4 CLKOUT (out) "32.768kHz output for bq29330 watchdog. Connect directly to bq29330 WDI pin", 5 ~{PRES} (in) "Active low input to sense system insertion", 6 ~{PFIN} (in) "Active low input to sense secondary protector output status", 7 SAFE (out) "Active high output to enforce additional level of safety, e.g. fuse blow", 8 SMBD (io) "SMBus data open drain bidirectional pin used for communication with bq20z70", 9 NC "Not used - leave floating", 10 SMBC (io) "SMBus clock open drain bidirectional pin used for communication with bq20z70", 11 SDATA (io) "Data transfer line from and to bq29330. Connect directly to SDATA pin of bq29330", 12 SCLK (out) "Data clock line to bq29330. Connect directly to SCLK pin of bq29330", 13 VSS (power), 14 SRP (in) "Connection for a small-value resistor to monitor the battery charge and discharge current flow", 15 SRN (in) "Connection for a small-value resistor to monitor the battery charge and discharge current flow", 16 ~{MRST} (in) "Master reset input that forces the device into reset when held low. Connect directly to XRST pin of bq29330", 17 VSS (power) "Negative supply. Both VSS needs to be connected together", 18 VCC (power) "Positive supply", 19 VCELL+ (in) "Positive differential cell input. Connect directly to CELL+ pin of bq29330", 20 VCELL- (in) "Negative differential cell input. Connect directly to CELL- pin of bq29330"

## BQ20Z70PWR-V160G4
designator U?
SBS 1.1 Compliant Gas Gauge Enabled with Impedance Track Technology for use with the bq29330, -40 to 85 degC, 20-pin TSSOP (PW), Green (RoHS & no Sb/Br); PartNumber: BQ20Z70PWR-V160G4; Manufacturer: Texas Instruments; Lead Acid: N; Li-Ion: Y; SubFamily: Battery Fuel Gauge; DatasheetVersion: SLUS686B; PackageVersion: revG, Feb-2011; PackageReference: PW20; PackageDescription: 20-Pin Plastic Thin Small Outline Package 6.5 x 4.4 mm Body ,0.65 mm Pitch; Supplier 1: Digi-Key; Supplier Part Number 1: BQ20Z70PWR-V160G4-ND; Supplier 2: Mouser; Supplier Part Number 2: 595-BQ20Z70PWRV160G4; Eco-Plan: Green (RoHS & no Sb/Br); Li-Polymer: Y; NiCd: N; NiMH: N; Over Voltage Protection: N; Mounting Technology: Surface Mount; Code_JEDEC: MO-153; ComponentLink1Description: Datasheet; ComponentLink1URL: http://www.ti.com/general/docs/lit/getliterature.tsp?genericPartNumber=BQ20Z70-V160&fileType=pdf
footprint PW20_N (TSOP, 20-Leads, Body 6.5x4.4mm, Pitch 0.65mm, IPC Medium Density)
footprint PW20_L (TSOP, 20-Leads, Body 6.5x4.4mm, Pitch 0.65mm, IPC High Density)
footprint PW20_M (TSOP, 20-Leads, Body 6.5x4.4mm, Pitch 0.65mm, IPC Low Density)
pins: 1 XALERT (in) "Alert interrupt input from bq29330. Connect directly to bq29330 XALERT pin", 2 TS2 (in) "2nd thermistor voltage input connection to monitor temperature", 3 TS1 (in) "1st thermistor voltage input connection to monitor temperature", 4 CLKOUT (out) "32.768kHz output for bq29330 watchdog. Connect directly to bq29330 WDI pin", 5 ~{PRES} (in) "Active low input to sense system insertion", 6 ~{PFIN} (in) "Active low input to sense secondary protector output status", 7 SAFE (out) "Active high output to enforce additional level of safety, e.g. fuse blow", 8 SMBD (io) "SMBus data open drain bidirectional pin used for communication with bq20z70", 9 NC "Not used - leave floating", 10 SMBC (io) "SMBus clock open drain bidirectional pin used for communication with bq20z70", 11 SDATA (io) "Data transfer line from and to bq29330. Connect directly to SDATA pin of bq29330", 12 SCLK (out) "Data clock line to bq29330. Connect directly to SCLK pin of bq29330", 13 VSS (power), 14 SRP (in) "Connection for a small-value resistor to monitor the battery charge and discharge current flow", 15 SRN (in) "Connection for a small-value resistor to monitor the battery charge and discharge current flow", 16 ~{MRST} (in) "Master reset input that forces the device into reset when held low. Connect directly to XRST pin of bq29330", 17 VSS (power) "Negative supply. Both VSS needs to be connected together", 18 VCC (power) "Positive supply", 19 VCELL+ (in) "Positive differential cell input. Connect directly to CELL+ pin of bq29330", 20 VCELL- (in) "Negative differential cell input. Connect directly to CELL- pin of bq29330"